# EAGLE library part DEBUG-CORTEX (library jetney-silabs-modules)
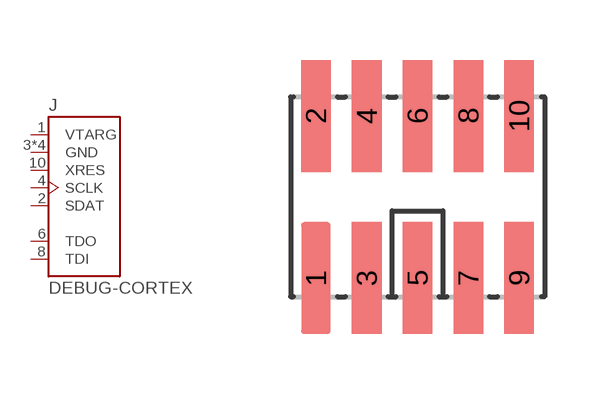
[diagram p29: symbol with the pads of DEBUG-50MIL; footprint DEBUG-50MIL]

Designator prefix J

## DEBUG-CORTEX  [DEBUG-50MIL]
1  VTARG  pwr
2  SDAT
3  GND  pwr
4  SCLK
5  GND  pwr
6  TDO
7  GND  pwr
8  TDI
9  GND  pwr
10  XRES  out

## Footprint DEBUG-50MIL (pad centres in mm)
CC debugger connection using 0.05-inch pitch header. Package design from "pretty-eagle-libs" at https://github.com/esden/pretty-eagle-libs/blob/master/pel_misc.lbr by @esden at Github. (CC-BY-SA-3.0) https://github.com/jrowberg/sf-oshw Last updated 2014-01-04 by Jeff Rowberg <jeff@rowberg.net>
smd 0.74 x 2.8: 1 -2.54,-2.03; 2 -2.54,2.03; 3 -1.27,-2.03; 4 -1.27,2.03; 5 0,-2.03; 6 0,2.03; 7 1.27,-2.03; 8 1.27,2.03; 9 2.54,-2.03; 10 2.54,2.03